# EAGLE library part PIC16F689* (library microchip-4)
MICROCONTROLLER PIC16F689 18 I/O One 16-bit timer One 8-bit timer Two comparators Precision internal oscillator-software selectable 8 MHz - 32 KHz SSP w/ I2C Compatible Address mask option EUSART LIN 2.0 Compatible 12 A/D Channels ULPW Enhanced Low Power Timer 1 Timer 1 Gate Synch Latch 4k Program Flash memory 256 bytes SRAM 256 bytes EEPROM
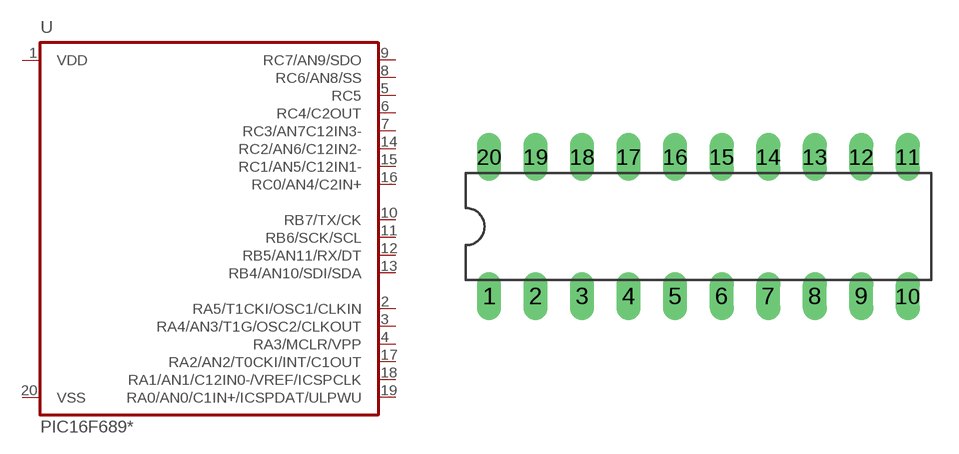
[diagram p68: symbol with the pads of DIL20; footprint DIL20]

Designator prefix -

## PIC16F689IP  [DIL20]
1  VDD  pwr
2  RA5/T1CKI/OSC1/CLKIN
3  RA4/AN3/T1G/OSC2/CLKOUT
4  RA3/MCLR/VPP
5  RC5
6  RC4/C2OUT
7  RC3/AN7C12IN3-
8  RC6/AN8/SS
9  RC7/AN9/SDO
10  RB7/TX/CK
11  RB6/SCK/SCL
12  RB5/AN11/RX/DT
13  RB4/AN10/SDI/SDA
14  RC2/AN6/C12IN2-
15  RC1/AN5/C12IN1-
16  RC0/AN4/C2IN+
17  RA2/AN2/T0CKI/INT/C1OUT
18  RA1/AN1/C12IN0-/VREF/ICSPCLK
19  RA0/AN0/C1IN+/ICSPDAT/ULPWU
20  VSS  pwr

## Footprint DIL20 (pad centres in mm)
drill 0.813 long: 1 -11.43,-3.81; 2 -8.89,-3.81; 3 -6.35,-3.81; 4 -3.81,-3.81; 5 -1.27,-3.81; 6 1.27,-3.81; 7 3.81,-3.81; 8 6.35,-3.81; 9 8.89,-3.81; 10 11.43,-3.81; 11 11.43,3.81; 12 8.89,3.81; 13 6.35,3.81; 14 3.81,3.81; 15 1.27,3.81; 16 -1.27,3.81; 17 -3.81,3.81; 18 -6.35,3.81; 19 -8.89,3.81; 20 -11.43,3.81